# EAGLE library part YC164-FR-0760R4L (library YC164-FR-0760R4L)
Res Thick Film Array 100 Ohm 5% ?200ppm/C ISOL Epoxy 8-Pin 1206(4 X 0603) Convex SMD T/R Check availability <https://pricing.snapeda.com/parts/YC164-FR-0760R4L/Yageo/view-part?ref=eda>
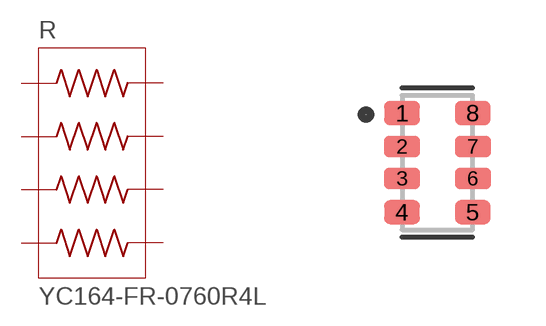
[diagram p0: symbol with the pads of RESCAXE80P320X160X70-8N; footprint RESCAXE80P320X160X70-8N]

Designator prefix R

## YC164-FR-0760R4L (Availability: In Stock; Description: 60.4 Ohm ±1% 62.5mW Power Per Element Isolated 4 Resistor Network/Array ±200ppm/°C 1206 (3216 Metric), Convex, Long Side Terminals; MF: Yageo; MP: YC164-FR-0760R4L; Package: 1206 Yageo; Price: None; Purchase-URL: https://pricing.snapeda.com/search/part/YC164-FR-0760R4L/?ref=eda)  [RESCAXE80P320X160X70-8N]
1  1  pas
2  2  pas
3  3  pas
4  4  pas
5  5  pas
6  6  pas
7  7  pas
8  8  pas

## Footprint RESCAXE80P320X160X70-8N (pad centres in mm)
smd 0.9 x 0.61: 1 -0.885,1.24; 4 -0.885,-1.24; 5 0.885,-1.24; 8 0.885,1.24
smd 0.9 x 0.53: 2 -0.885,0.4; 3 -0.885,-0.4; 6 0.885,-0.4; 7 0.885,0.4